# EAGLE library part KAYO_DOMINO_09P (library kxnStandard_connector)
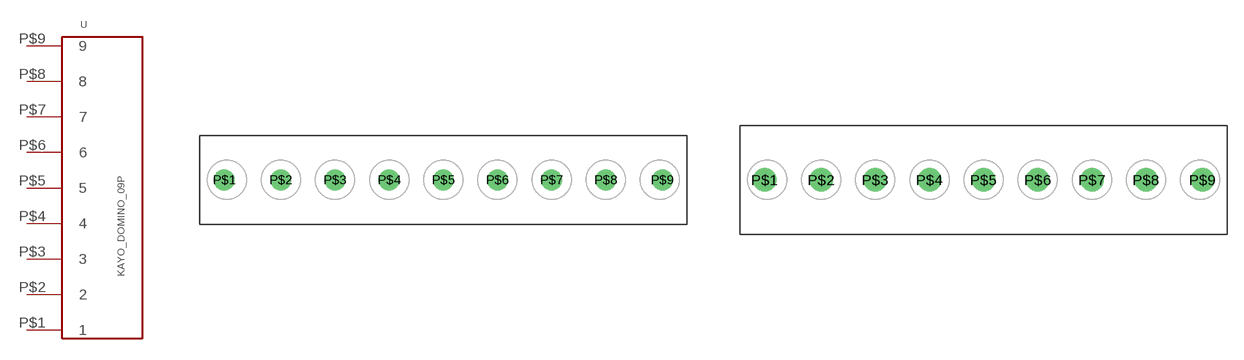
[diagram p20: symbol with the pads of KF127-5.0-9P; footprints KF127-5.0-9P, KF128-5.0-9P]

Designator prefix -

## KAYO_DOMINO_09P_09P_FULL (CC_SHOP: CongCo)  [KF127-5.0-9P]
P$1  1
P$2  2
P$3  3
P$4  4
P$5  5
P$6  6
P$7  7
P$8  8
P$9  9

## KAYO_DOMINO_09PKF128_09P_FULL (CC_SHOP: CongCo)  [KF128-5.0-9P]
Pads as for KF127-5.0-9P

## Footprint KF127-5.0-9P (pad centres in mm)
drill 1 pad 1.93: P$1 -20.22,0; P$2 -15,0; P$3 -10,0; P$4 -5,0; P$5 0,0; P$6 5,0; P$7 10,0; P$8 15,0; P$9 20.22,0

## Footprint KF128-5.0-9P (pad centres in mm)
drill 1.1 pad 2.184: P$1 -20.22,0; P$2 -15,0; P$3 -10,0; P$4 -5,0; P$5 0,0; P$6 5,0; P$7 10,0; P$8 15,0; P$9 20.22,0